# Altium schematic symbol library Connectors.SchLib: 1 symbol
Pins are listed as number, name and electrical type; pins without a type are passive.

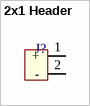
[diagram p0: symbol 2x1 Header]

## 2x1 Header
designator J?  (value not drawn)
Manufacturer: *; Package: *; Value: *
footprint 2.54mm_1mm_1x2
pins: 1 +, 2 -